# Altium schematic symbol library TLV1117.SchLib: 1 symbol
Pins are listed as number, name and electrical type; pins without a type are passive.

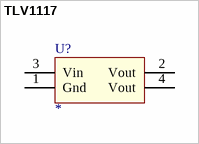
[diagram p0: symbol TLV1117]

## TLV1117
designator U?
pins: 1 Gnd (power), 2 Vout (power), 3 Vin (power), 4 Vout (power)